# EAGLE library part TEXAS_INSTRUMENTS-BUCK_CONVERTER-TPS62095RGTR (library Module_Regulators)
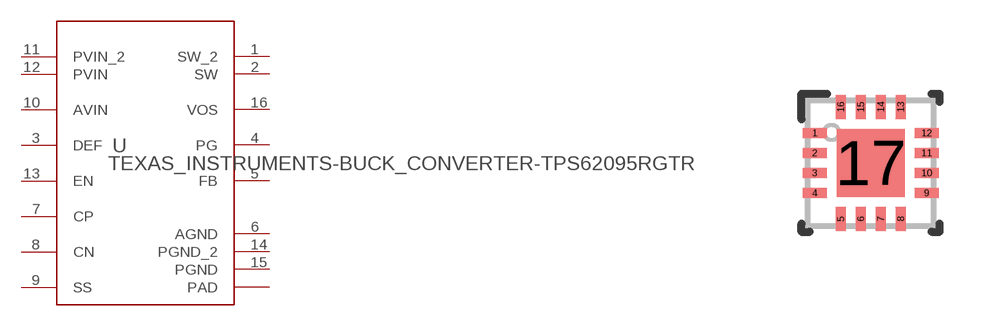
[diagram p7: symbol with the pads of TEXAS_INSTRUMENTS-BUCK_CONVERTER-TPS62095RGTR; footprint TEXAS_INSTRUMENTS-BUCK_CONVERTER-TPS62095RGTR]

Designator prefix U

## TEXAS_INSTRUMENTS-BUCK_CONVERTER-TPS62095RGTR (MANUFACTURER: Texas Instruments; PARTNUMBER: TPS62095RGTR; REFDES: RefDes; TYPE: TYPE; VALUE: Value)  [TEXAS_INSTRUMENTS-BUCK_CONVERTER-TPS62095RGTR]
1  SW_2  pwr
2  SW  pwr
3  DEF  in
4  PG  out
5  FB  in
6  AGND  pwr
7  CP  pas
8  CN  pas
9  SS  in
10  AVIN  pwr
11  PVIN_2  pwr
12  PVIN  pwr
13  EN  in
14  PGND_2  pwr
15  PGND  pas
16  VOS  in
17  PAD  pwr

## Footprint TEXAS_INSTRUMENTS-BUCK_CONVERTER-TPS62095RGTR (pad centres in mm)
smd 0.6 x 0.25: 1 -1.4,0.75; 2 -1.4,0.25; 3 -1.4,-0.25; 4 -1.4,-0.75; 9 1.4,-0.75; 10 1.4,-0.25; 11 1.4,0.25; 12 1.4,0.75
smd 0.25 x 0.6: 5 -0.75,-1.4; 6 -0.25,-1.4; 7 0.25,-1.4; 8 0.75,-1.4; 13 0.75,1.4; 14 0.25,1.4; 15 -0.25,1.4; 16 -0.75,1.4
smd 1.7 x 1.7: 17 0,0